# Altium footprint library CONN_TBLOCK_3P0.PcbLib: 6 footprints
Each footprint in its own frame and in the unit in brackets; x right, y up, seen from the top. Pads: shape width x height; smd on the part's side, far side on the other; paste and mask are expansions set on the pad; w line width, h text height; cw(c..) or ccw(c..) is an arc to the next point about the centre after c.
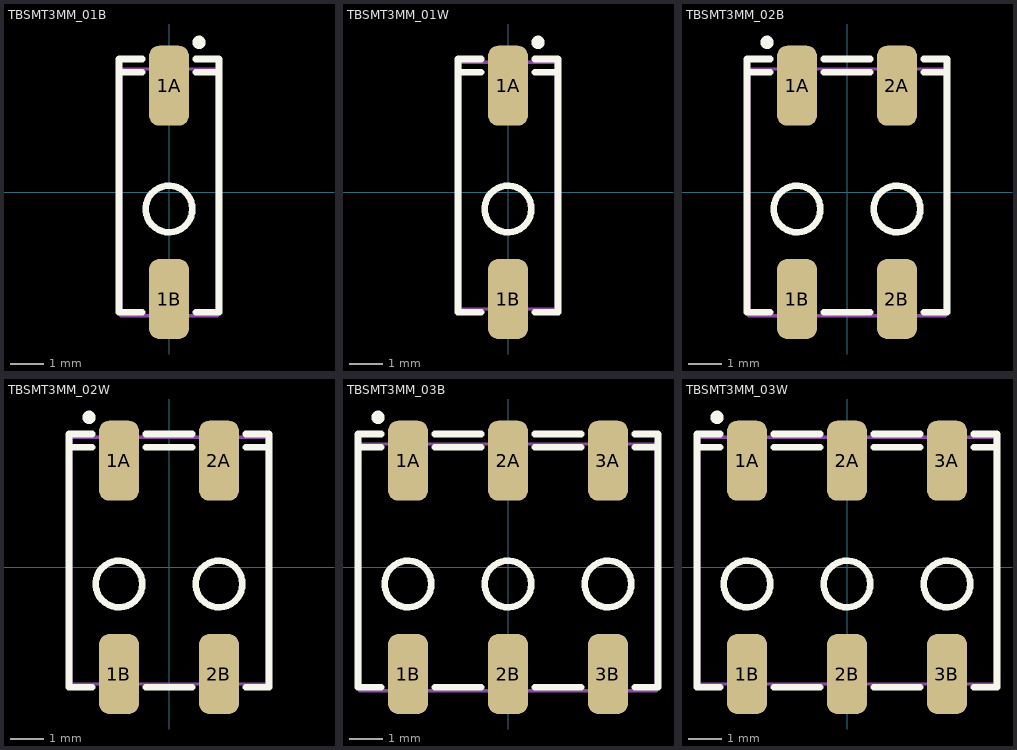
[diagram p0: the footprints below, top view; thin cyan lines are the x and y axes]

## TBSMT3MM_01B [mm] "Conn TB, SMT 3mm pitch, Black, 2059-321/998-403"
pads (2):
  rrect50% 1.2x2.4 smd paste-0.1: 1A(0,3.2) 1B(0,-3.2)
Top Overlay:
  circle w0.2: c0.9,4.5 r0.1
  circle w0.2: c0,-0.5 r0.7
  lines w0.2: -1.5,3.6 -0.8,3.6 ; -0.8,-3.6 -1.5,-3.6 -1.5,4 -0.8,4 ; 0.8,-3.6 1.5,-3.6 1.5,4 0.8,4 ; 0.8,3.6 1.5,3.6
Mechanical 13:
  lines w0.1: -1.45,-3.7 1.45,-3.7 1.45,3.7 -1.45,3.7 -1.45,-3.7
3D body "2059-321_998-403.stp": height 2.7, standoff 0, extent -1.45,-3.93 1.45,3.92

## TBSMT3MM_01W [mm] "Conn TB, SMT 3mm pitch, White, 2059-301/998-403"
pads (2):
  rrect50% 1.2x2.4 smd paste-0.1: 1A(0,3.2) 1B(0,-3.2)
Top Overlay:
  circle w0.2: c0,-0.5 r0.7
  circle w0.2: c0.9,4.5 r0.1
  lines w0.2: -1.5,3.6 -0.8,3.6 ; -0.8,-3.6 -1.5,-3.6 -1.5,4 -0.8,4 ; 0.8,-3.6 1.5,-3.6 1.5,4 0.8,4 ; 0.8,3.6 1.5,3.6
Mechanical 13:
  lines w0.1: -1.45,-3.5 -1.45,3.9 1.45,3.9 1.45,-3.5 -1.45,-3.5
3D body "2059-301_998-403.stp": height 2.7, standoff 0, extent -1.45,-3.93 1.45,3.92

## TBSMT3MM_02B [mm] "Conn TB, SMT 3mm pitch, Black, 2059-322/998-403"
pads (4):
  rrect50% 1.2x2.4 smd paste-0.1: 1A(-1.5,3.2) 1B(-1.5,-3.2) 2A(1.5,3.2) 2B(1.5,-3.2)
Top Overlay:
  circle w0.2: c-2.4,4.5 r0.1
  circle w0.2: c1.5,-0.5 r0.7
  circle w0.2: c-1.5,-0.5 r0.7
  lines w0.2: -2.9,3.6 -2.3,3.6 ; -2.3,-3.6 -3,-3.6 -3,4 -2.3,4 ; -0.7,-3.6 0,-3.6 0.7,-3.6 ; -0.7,3.6 0.7,3.6 ; -0.7,4 0,4 0.7,4 ; 2.3,-3.6 3,-3.6 3,4 2.3,4 ; 2.3,3.6 3,3.6
Mechanical 13:
  lines w0.1: -2.95,-3.7 2.95,-3.7 2.95,3.7 -2.95,3.7 -2.95,-3.7
3D body "2059-322_998-403.stp": height 2.7, standoff 0, extent -2.95,-3.93 2.95,3.92

## TBSMT3MM_02W [mm] "Conn TB, SMT 3mm pitch, White, 2059-302/998-403"
pads (4):
  rrect50% 1.2x2.4 smd paste-0.1: 1A(-1.5,3.2) 1B(-1.5,-3.2) 2A(1.5,3.2) 2B(1.5,-3.2)
Top Overlay:
  circle w0.2: c-1.5,-0.5 r0.7
  circle w0.2: c1.5,-0.5 r0.7
  circle w0.2: c-2.4,4.5 r0.1
  lines w0.2: -2.9,3.6 -2.3,3.6 ; -2.3,-3.6 -3,-3.6 -3,4 -2.3,4 ; -0.7,-3.6 0,-3.6 0.7,-3.6 ; -0.7,3.6 0.7,3.6 ; -0.7,4 0,4 0.7,4 ; 2.3,-3.6 3,-3.6 3,4 2.3,4 ; 2.3,3.6 3,3.6
Mechanical 13:
  lines w0.1: -2.95,-3.5 -2.95,3.9 2.95,3.9 2.95,-3.5 -2.95,-3.5
3D body "2059-302_998-403.stp": height 2.7, standoff 0, extent -2.95,-3.93 2.95,3.92

## TBSMT3MM_03B [mm] "Conn TB, SMT 3mm pitch, Black, 2059-323/998-403"
pads (6):
  rrect50% 1.2x2.4 smd paste-0.1: 1A(-3,3.2) 1B(-3,-3.2) 2A(0,3.2) 2B(0,-3.2) 3A(3,3.2) 3B(3,-3.2)
Top Overlay:
  circle w0.2: c-3.9,4.5 r0.1
  circle w0.2: c3,-0.5 r0.7
  circle w0.2: c0,-0.5 r0.7
  circle w0.2: c-3,-0.5 r0.7
  lines w0.2: -4.5,3.6 -3.8,3.6 ; -3.8,-3.6 -4.5,-3.6 -4.5,4 -3.8,4 ; -2.2,-3.6 -1.5,-3.6 -0.8,-3.6 ; -2.2,3.6 -1.5,3.6 -0.8,3.6 ; -2.2,4 -1.5,4 -0.8,4 ; 0.8,-3.6 1.5,-3.6 2.2,-3.6 ; 0.8,3.6 1.5,3.6 2.2,3.6 ; 0.8,4 1.5,4 2.2,4 ; 3.8,-3.6 4.5,-3.6 4.5,4 3.8,4 ; 3.8,3.6 4.5,3.6
Mechanical 13:
  lines w0.1: -4.45,-3.7 4.45,-3.7 4.45,3.7 -4.45,3.7 -4.45,-3.7
3D body "2059-323_998-403.stp": height 2.7, standoff 0, extent -4.45,-3.92 4.45,3.93

## TBSMT3MM_03W [mm] "Conn TB, SMT 3mm pitch, White, 2059-303/998-403"
pads (6):
  rrect50% 1.2x2.4 smd paste-0.1: 1A(-3,3.2) 1B(-3,-3.2) 2A(0,3.2) 2B(0,-3.2) 3A(3,3.2) 3B(3,-3.2)
Top Overlay:
  circle w0.2: c-3.9,4.5 r0.1
  circle w0.2: c3,-0.5 r0.7
  circle w0.2: c0,-0.5 r0.7
  circle w0.2: c-3,-0.5 r0.7
  lines w0.2: -4.5,3.6 -3.8,3.6 ; -3.8,-3.6 -4.5,-3.6 -4.5,4 -3.8,4 ; -2.2,-3.6 -1.5,-3.6 -0.8,-3.6 ; -2.2,3.6 -1.5,3.6 -0.8,3.6 ; -2.2,4 -1.5,4 -0.8,4 ; 0.8,-3.6 1.5,-3.6 2.2,-3.6 ; 0.8,3.6 1.5,3.6 2.2,3.6 ; 0.8,4 1.5,4 2.2,4 ; 3.8,-3.6 4.5,-3.6 4.5,4 3.8,4 ; 3.8,3.6 4.5,3.6
Mechanical 13:
  lines w0.1: -4.45,-3.5 -4.45,3.9 4.45,3.9 4.45,-3.5 -4.45,-3.5
3D body "2059-303_998-403.stp": height 2.7, standoff 0, extent -4.45,-3.92 4.45,3.93